# Altium footprint library CAP_6TPE220MAZB.PcbLib: 1 footprints
Each footprint in its own frame and in the unit in brackets; x right, y up, seen from the top. Pads: shape width x height; smd on the part's side, far side on the other; paste and mask are expansions set on the pad; w line width, h text height; cw(c..) or ccw(c..) is an arc to the next point about the centre after c.
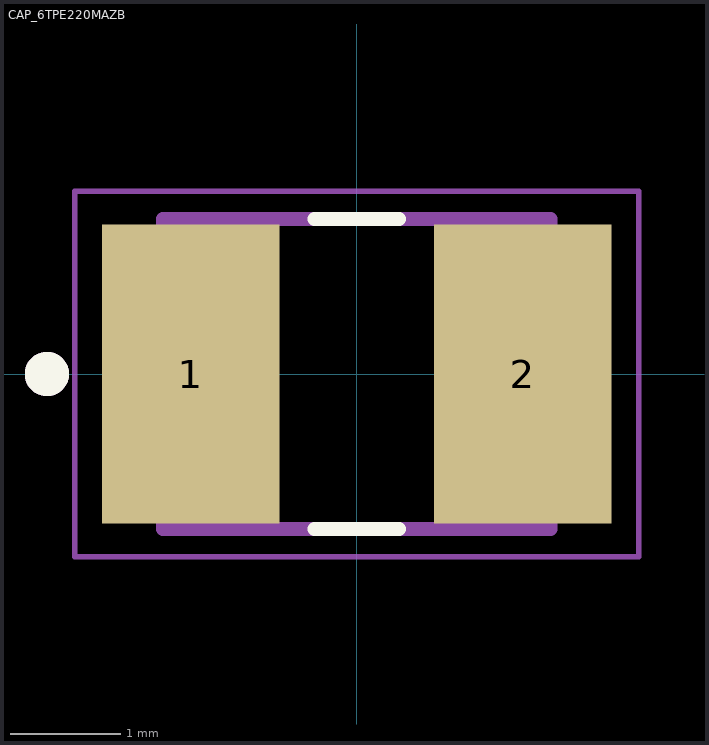
[diagram p0: the footprint, top view; thin cyan lines are the x and y axes]

## CAP_6TPE220MAZB [mm]
pads (2):
  rect 1.6x2.7 smd: 1(-1.5,0) 2(1.5,0)
Top Overlay:
  circle w0.2: c-2.8,0 r0.1
  lines w0.127: -0.38,-1.4 0.38,-1.4 ; -0.38,1.4 0.38,1.4
Assembly Top:
  circle w0.2: c-2.8,0 r0.1
  lines w0.127: -1.75,-1.4 -1.75,1.4 1.75,1.4 1.75,-1.4 -1.75,-1.4
Top Courtyard:
  lines w0.05: -2.55,-1.65 -2.55,1.65 2.55,1.65 2.55,-1.65 -2.55,-1.65